# EAGLE library part MC33063ADR (library MC33063ADR)
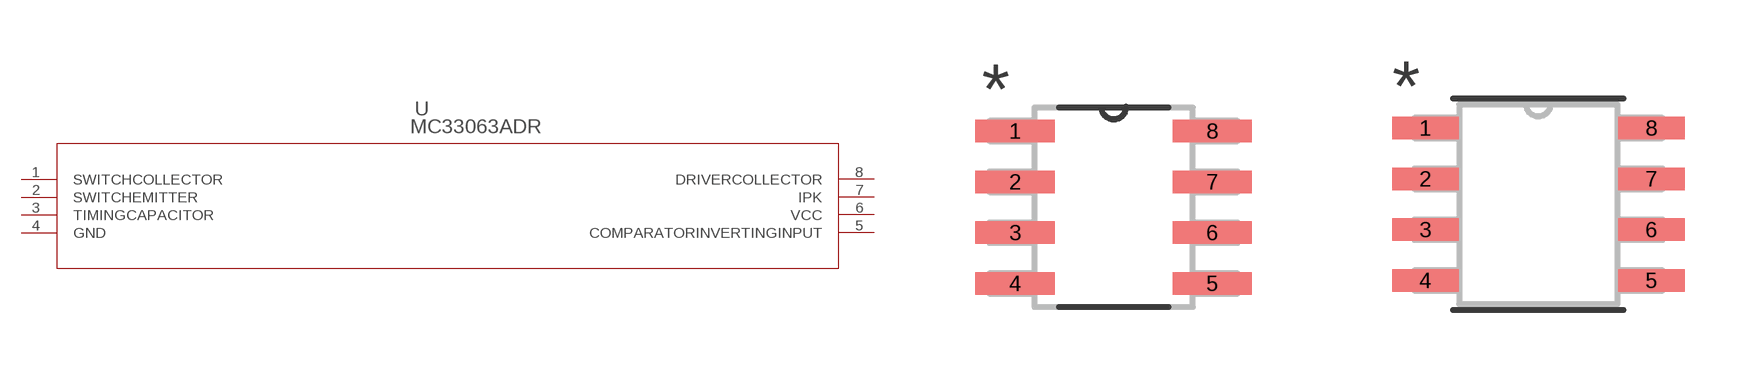
[diagram p0: symbol with the pads of D8; footprints D8, D8-M]

Designator prefix U

## MC33063ADR (DATASHEET_URL: http://www.ti.com/lit/gpn/MC33063A; DESCRIPTION: 1.5-A Peak Boost/Buck/Inverting Switching Regulator; FAMILY_NAME: INVERTING REGULATOR; GENERIC_PART_NUMBER: MC33063A; INDUSTRY_STD_PKG_TYPE: SOIC; MANUFACTURER: Texas Instruments; MANUFACTURER_PART_NUMBER: MC33063ADR; PACKAGE_DESIGNATOR: D; PIN_COUNT: 8; VENDOR: Texas Instruments)  [D8]
1  SWITCHCOLLECTOR  pas
2  SWITCHEMITTER  pas
3  TIMINGCAPACITOR  pas
4  GND  pas
5  COMPARATORINVERTINGINPUT  pas
6  VCC  pas
7  IPK  pas
8  DRIVERCOLLECTOR  pas

## MC33063ADRD8-M (DATASHEET_URL: http://www.ti.com/lit/gpn/MC33063A; DESCRIPTION: 1.5-A Peak Boost/Buck/Inverting Switching Regulator; FAMILY_NAME: INVERTING REGULATOR; GENERIC_PART_NUMBER: MC33063A; INDUSTRY_STD_PKG_TYPE: SOIC; MANUFACTURER: Texas Instruments; MANUFACTURER_PART_NUMBER: MC33063ADR; PACKAGE_DESIGNATOR: D; PIN_COUNT: 8; VENDOR: Texas Instruments)  [D8-M]
Pads as for D8

## MC33063ADRD8-L (DATASHEET_URL: http://www.ti.com/lit/gpn/MC33063A; DESCRIPTION: 1.5-A Peak Boost/Buck/Inverting Switching Regulator; FAMILY_NAME: INVERTING REGULATOR; GENERIC_PART_NUMBER: MC33063A; INDUSTRY_STD_PKG_TYPE: SOIC; MANUFACTURER: Texas Instruments; MANUFACTURER_PART_NUMBER: MC33063ADR; PACKAGE_DESIGNATOR: D; PIN_COUNT: 8; VENDOR: Texas Instruments)  [D8-L]
Pads as for D8

## Footprint D8 (pad centres in mm)
smd 1.981 x 0.559: 1 -2.464,1.905; 2 -2.464,0.635; 3 -2.464,-0.635; 4 -2.464,-1.905; 5 2.464,-1.905; 6 2.464,-0.635; 7 2.464,0.635; 8 2.464,1.905

## Footprint D8-M (pad centres in mm)
smd 1.664 x 0.559: 1 -2.826,1.905; 2 -2.826,0.635; 3 -2.826,-0.635; 4 -2.826,-1.905; 5 2.826,-1.905; 6 2.826,-0.635; 7 2.826,0.635; 8 2.826,1.905

## Footprint D8-L (pad centres in mm)
smd 1.257 x 0.508: 1 -2.623,1.905; 2 -2.623,0.635; 3 -2.623,-0.635; 4 -2.623,-1.905; 5 2.623,-1.905; 6 2.623,-0.635; 7 2.623,0.635; 8 2.623,1.905